# EAGLE library part 6123XX20621_61233420621 (library con-wurth)
WR-BHD 2.54 mm Male SMT Box Header Material Properties: Insulator Material PA 9T; PA9T Insulator Flammability Rating UL94 V-0 Color Black Contact Material Copper Alloy Contact Plating Gold Contact Type Stamped General Information Operating Temperature -40 up to +125 °C Compliance RoHS Working Voltage 250 V (AC) Withstanding Voltage 500 V (AC) Contact Resistance 20 mΩ RISO 1000 MΩ Pitch 2.54 mm Gender Male Certification UL Approval E323964 Packaging Properties Packaging Tape and Reel with Cap <https://www.we-online.com/components/media/o32919v209%20Family_WR-BHD_612xxx20621.jpg> Details see: www.we-online.com/en/components/products/BHD_2_54_SMT_MALE_BOX_HEADER_6120XX20621 <www.we-online.com/catalog/BHD_2_54_SMT_MALE_BOX_HEADER_6120XX20621/?utm_source=eagle_model&utm_medium=description_link&utm_campaign=eisos_eagle> Updated by Ella Wu 2022-09-06 2022 (C) Würth Elektronik
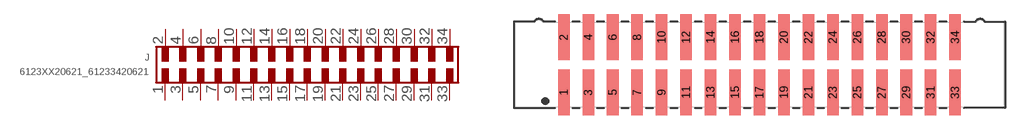
[diagram p86: symbol with the pads of 61233420621; footprint 61233420621]

Designator prefix J

## 6123XX20621_61233420621 (CONTACT-RESISTANCE: 20mOhm; DATASHEET-URL: https://www.we-online.com/redexpert/spec/61233420621?ae; GENDER: Male; IR: 3A; LENGTH: 50.8mm; MOUNT: SMT; PACKAGING: Tape and Reel with Cap; PART-NUMBER: 61233420621; PINS: 34; PITCH: 2.54mm; TYPE: Straight; VALUE: 61233420621; WORKING-VOLTAGE: 250V(AC))  [61233420621]
1  1  pas
2  2  pas
3  3  pas
4  4  pas
5  5  pas
6  6  pas
7  7  pas
8  8  pas
9  9  pas
10  10  pas
11  11  pas
12  12  pas
13  13  pas
14  14  pas
15  15  pas
16  16  pas
17  17  pas
18  18  pas
19  19  pas
20  20  pas
21  21  pas
22  22  pas
23  23  pas
24  24  pas
25  25  pas
26  26  pas
27  27  pas
28  28  pas
29  29  pas
30  30  pas
31  31  pas
32  32  pas
33  33  pas
34  34  pas

## Footprint 61233420621 (pad centres in mm)
WR-BHD 2.54 mm Male SMT Box Header 2.54 mm, SMT, 34Pins
smd 1.2 x 4.75: 1 -20.32,-2.875; 2 -20.32,2.875; 3 -17.78,-2.875; 4 -17.78,2.875; 5 -15.24,-2.875; 6 -15.24,2.875; 7 -12.7,-2.875; 8 -12.7,2.875; 9 -10.16,-2.875; 10 -10.16,2.875; 11 -7.62,-2.875; 12 -7.62,2.875; 13 -5.08,-2.875; 14 -5.08,2.875; 15 -2.54,-2.875; 16 -2.54,2.875; 17 0,-2.875; 18 0,2.875; 19 2.54,-2.875; 20 2.54,2.875; 21 5.08,-2.875; 22 5.08,2.875; 23 7.62,-2.875; 24 7.62,2.875; 25 10.16,-2.875; 26 10.16,2.875; 27 12.7,-2.875; 28 12.7,2.875; 29 15.24,-2.875; 30 15.24,2.875; 31 17.78,-2.875; 32 17.78,2.875; 33 20.32,-2.875; 34 20.32,2.875